# Altium footprint library DESD5V0U1BA-7.PcbLib: 3 footprints
Each footprint in its own frame and in the unit in brackets; x right, y up, seen from the top. Pads: shape width x height; smd on the part's side, far side on the other; paste and mask are expansions set on the pad; w line width, h text height; cw(c..) or ccw(c..) is an arc to the next point about the centre after c.
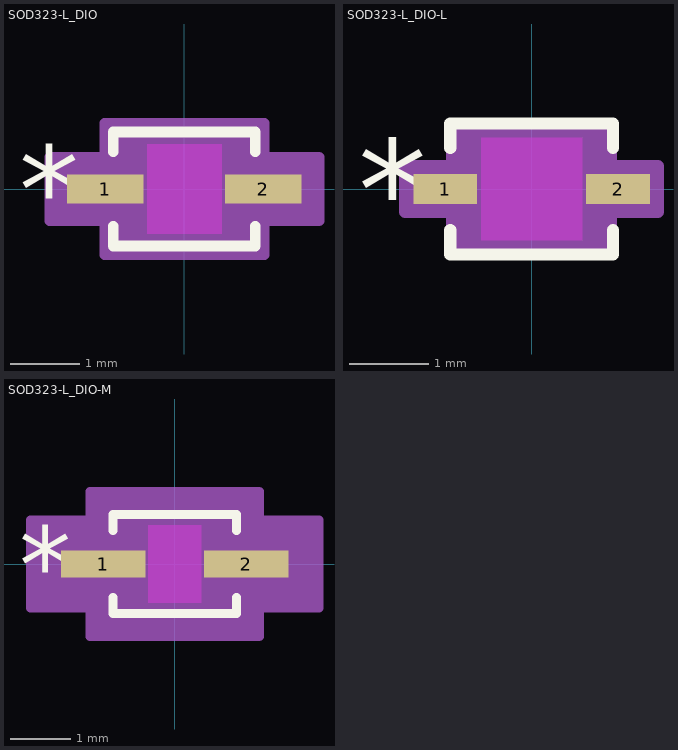
[diagram p0: the footprints below, top view; thin cyan lines are the x and y axes]

## SOD323-L_DIO [mil]
pads (2):
  rect 43.56x16.36 smd paste+0 mask+0: 1(-45,0) 2(45,0)
Top Overlay:
  lines w6: -40.5,-21.28 -40.5,-32.5 40.5,-32.5 40.5,-21.28 ; -40.5,21.28 -40.5,32.5 40.5,32.5 40.5,21.28
  text ".Designator" at -137.5,-25 h50
  text "*" at -94.28,-25 h50
Keep-Out Layer:
  region: -21.22,-25.5 -21.22,25.5 21.22,25.5 21.22,-25.5
Mechanical 13:
  lines w1: -35.5,-13.75 -21.75,-27.5 ; -35.5,13.75 -21.75,27.5 ; -53,-7 -53,7 -35.5,7 -35.5,-7 -53,-7 ; -35.5,-27.5 35.5,-27.5 35.5,27.5 -35.5,27.5 -35.5,-27.5 ; 35.5,-7 35.5,7 53,7 53,-7 35.5,-7
  text "*" at -38,-25 h50
  text ".Designator" at -137.5,-25 h50
Mechanical 15:
  region: -45.5,-18.18 -76.78,-18.18 -76.78,18.18 -45.5,18.18 -45.5,37.5 45.5,37.5 45.5,18.18 76.78,18.18 76.78,-18.18 45.5,-18.18 45.5,-37.5 -45.5,-37.5
  lines w6: -76.78,-18.18 -76.78,18.18 -45.5,18.18 -45.5,37.5 45.5,37.5 45.5,18.18 76.78,18.18 76.78,-18.18 45.5,-18.18 45.5,-37.5 -45.5,-37.5 -45.5,-18.18 -76.78,-18.18
3D body "SOD323-L_DIO.step": height 47.09, standoff 0, extent -52.99,-27.48 52.99,27.48

## SOD323-L_DIO-L [mil]
pads (2):
  rect 31.75x14.79 smd paste+0 mask+0: 1(-43.03,0) 2(43.03,0)
Top Overlay:
  lines w6: -40.5,-20.49 -40.5,-32.5 40.5,-32.5 40.5,-20.49 ; -40.5,20.49 -40.5,32.5 40.5,32.5 40.5,20.49
  text ".Designator" at -137.5,-25 h50
  text "*" at -86.41,-25 h50
Keep-Out Layer:
  region: -25.16,-25.5 -25.16,25.5 25.16,25.5 25.16,-25.5
Mechanical 13:
  lines w1: -35.5,-13.75 -21.75,-27.5 ; -35.5,13.75 -21.75,27.5 ; -53,-7 -53,7 -35.5,7 -35.5,-7 -53,-7 ; -35.5,-27.5 35.5,-27.5 35.5,27.5 -35.5,27.5 -35.5,-27.5 ; 35.5,-7 35.5,7 53,7 53,-7 35.5,-7
  text "*" at -38,-25 h50
  text ".Designator" at -137.5,-25 h50
Mechanical 15:
  region: -39.5,-11.39 -62.91,-11.39 -62.91,11.39 -39.5,11.39 -39.5,31.5 39.5,31.5 39.5,11.39 62.91,11.39 62.91,-11.39 39.5,-11.39 39.5,-31.5 -39.5,-31.5
  lines w6: -62.91,-11.39 -62.91,11.39 -39.5,11.39 -39.5,31.5 39.5,31.5 39.5,11.39 62.91,11.39 62.91,-11.39 39.5,-11.39 39.5,-31.5 -39.5,-31.5 -39.5,-11.39 -62.91,-11.39
3D body "SOD323-L_DIO.step": height 47.09, standoff 0, extent -52.99,-27.48 52.99,27.48

## SOD323-L_DIO-M [mil]
pads (2):
  rect 55.37x17.94 smd paste+0 mask+0: 1(-46.97,0) 2(46.97,0)
Top Overlay:
  lines w6: -40.5,-22.07 -40.5,-32.5 40.5,-32.5 40.5,-22.07 ; -40.5,22.07 -40.5,32.5 40.5,32.5 40.5,22.07
  text ".Designator" at -137.5,-25 h50
  text "*" at -102.15,-25 h50
Keep-Out Layer:
  region: -17.28,-25.5 -17.28,25.5 17.28,25.5 17.28,-25.5
Mechanical 13:
  lines w1: -35.5,-13.75 -21.75,-27.5 ; -35.5,13.75 -21.75,27.5 ; -53,-7 -53,7 -35.5,7 -35.5,-7 -53,-7 ; -35.5,-27.5 35.5,-27.5 35.5,27.5 -35.5,27.5 -35.5,-27.5 ; 35.5,-7 35.5,7 53,7 53,-7 35.5,-7
  text "*" at -38,-25 h50
  text ".Designator" at -137.5,-25 h50
Mechanical 15:
  region: -55.5,-28.97 -94.65,-28.97 -94.65,28.97 -55.5,28.97 -55.5,47.5 55.5,47.5 55.5,28.97 94.65,28.97 94.65,-28.97 55.5,-28.97 55.5,-47.5 -55.5,-47.5
  lines w6: -94.65,-28.97 -94.65,28.97 -55.5,28.97 -55.5,47.5 55.5,47.5 55.5,28.97 94.65,28.97 94.65,-28.97 55.5,-28.97 55.5,-47.5 -55.5,-47.5 -55.5,-28.97 -94.65,-28.97
3D body "SOD323-L_DIO.step": height 47.09, standoff 0, extent -52.99,-27.48 52.99,27.48